# Altium footprint library EEEFK1J4R7R.PcbLib: 1 footprints
Each footprint in its own frame and in the unit in brackets; x right, y up, seen from the top. Pads: shape width x height; smd on the part's side, far side on the other; paste and mask are expansions set on the pad; w line width, h text height; cw(c..) or ccw(c..) is an arc to the next point about the centre after c.
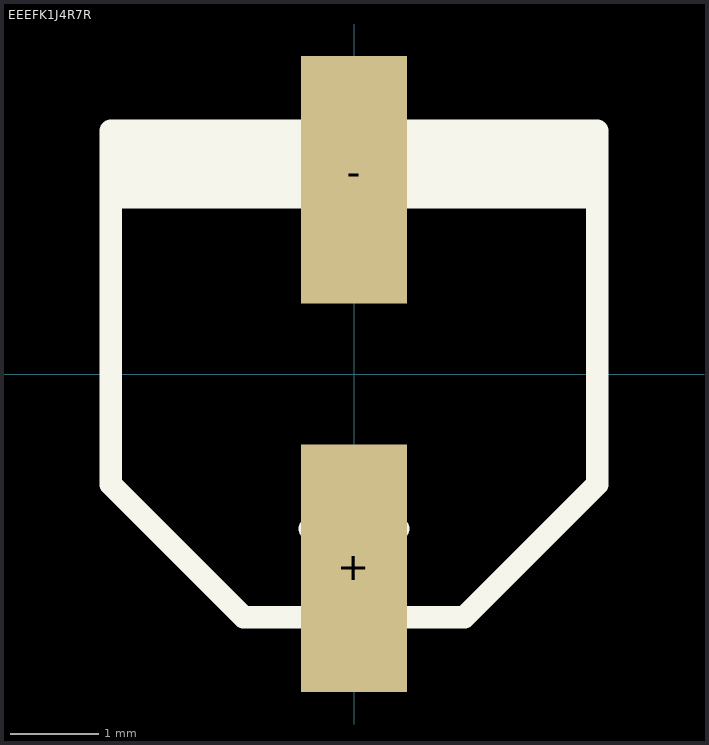
[diagram p0: the footprint, top view; thin cyan lines are the x and y axes]

## EEEFK1J4R7R [mm]
pads (2):
  rect 1.2x2.8 smd: +(0,-2.2) -(0,2.2)
Top Overlay:
  lines w0.254: -2.75,2.25 2.75,2.25 2.75,2.5 -2.75,2.5 -2.75,2 2.75,2 ; -0.5,-1.75 0.5,-1.75 ; 0,-2.25 0,-2 0,-1.25 ; -2.75,-1.25 -2.75,2.75 0,2.75 2.75,2.75 2.75,-1.25 1.25,-2.75 -1.25,-2.75 -2.75,-1.25